# EAGLE library part DG408DYZ (library Intersil_By_element14_Batch_1)
Single 8-Channel/Differential 4-Channel,
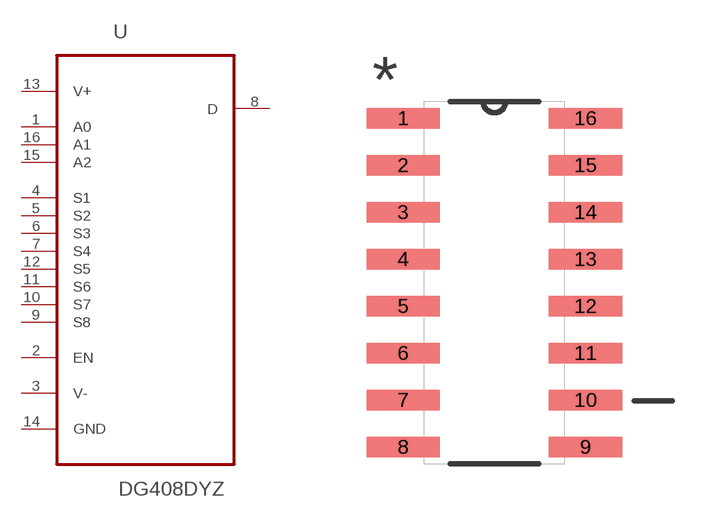
[diagram p33: symbol with the pads of SOIC127P600X175-16N; footprint SOIC127P600X175-16N]

Designator prefix U

## DG408DYZ (MPN: DG408DYZ; OC_FARNELL: 9663827; OC_NEWARK: 11J8340; PACKAGE: SOIC-16; SUPPLIER: INTERSIL)  [SOIC127P600X175-16N]
1  A0  in
2  EN  in
3  V-  in
4  S1  in
5  S2  in
6  S3  in
7  S4  in
8  D  out
9  S8  in
10  S7  in
11  S6  in
12  S5  in
13  V+  in
14  GND  pas
15  A2  in
16  A1  in

## Footprint SOIC127P600X175-16N (pad centres in mm)
smd 1.981 x 0.559: 1 -2.464,4.445; 2 -2.464,3.175; 3 -2.464,1.905; 4 -2.464,0.635; 5 -2.464,-0.635; 6 -2.464,-1.905; 7 -2.464,-3.175; 8 -2.464,-4.445; 9 2.464,-4.445; 10 2.464,-3.175; 11 2.464,-1.905; 12 2.464,-0.635; 13 2.464,0.635; 14 2.464,1.905; 15 2.464,3.175; 16 2.464,4.445